# Altium footprint library STM32.PcbLib: 15 footprints
Each footprint in its own frame and in the unit in brackets; x right, y up, seen from the top. Pads: shape width x height; smd on the part's side, far side on the other; paste and mask are expansions set on the pad; w line width, h text height; cw(c..) or ccw(c..) is an arc to the next point about the centre after c.
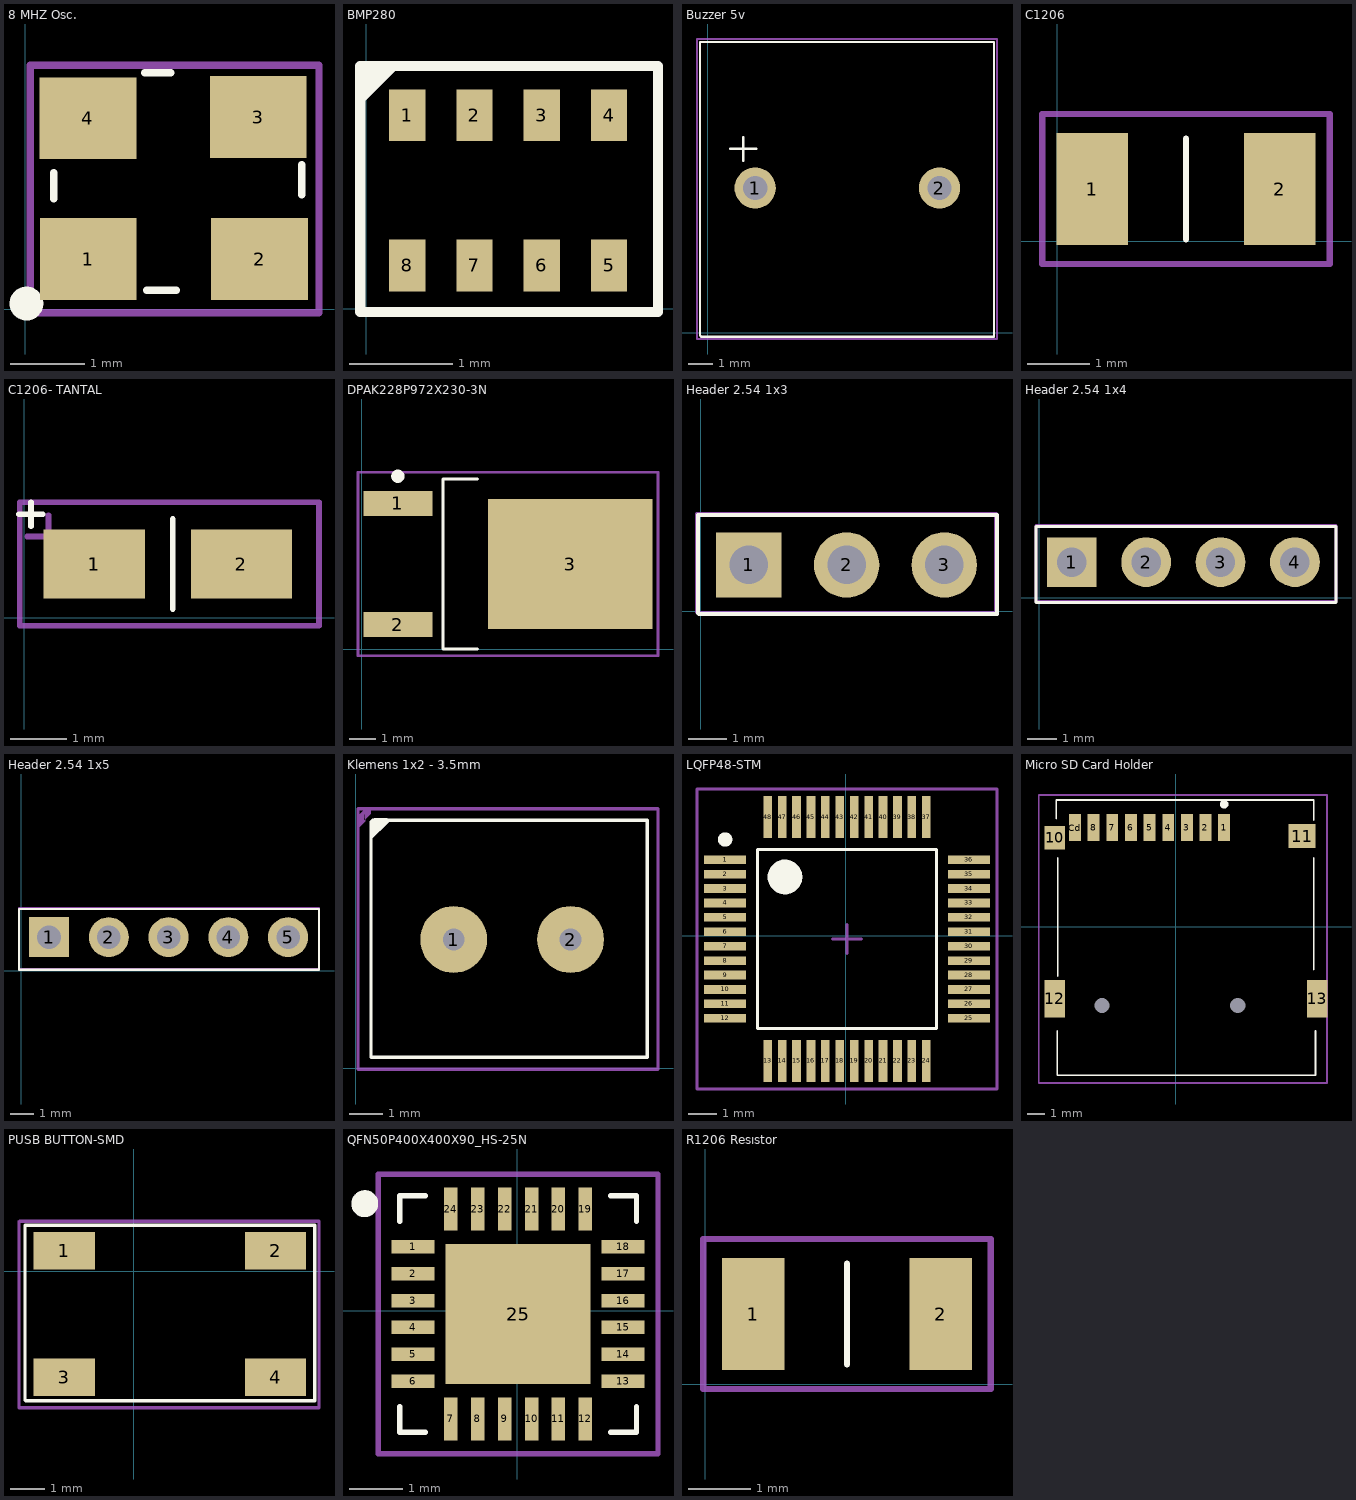
[diagram p0: the footprints below, top view; thin cyan lines are the x and y axes]

## 8 MHZ Osc. [mm]
pads (4):
  rect 1.3x1.1 smd mask+0.05: 1(0.846,0.674) 2(3.146,0.674) 3(3.13,2.581) 4(0.841,2.565)
Top Overlay:
  circle w0.254: c0.015,0.075 r0.1
  lines w0.1: 0.382,1.482 0.382,1.836 ; 1.603,3.174 1.957,3.174 ; 1.628,0.253 2.028,0.253 ; 3.711,1.54 3.711,1.94
Mechanical 3:
  circle w0.254: c0.611,0.64 r0.1
  lines w0.1: 0.066,-0.047 0.066,3.277 3.945,3.277 3.945,-0.047 0.066,-0.047
3D body "ASE3.STEP": height 1.22, standoff -0.03, extent 0.448,0.523 3.648,3.023

## BMP280 [mm]
pads (8):
  rect 0.35x0.5 smd mask+0.05: 1(0.398,1.867) 2(1.048,1.867) 3(1.698,1.867) 4(2.348,1.867) 5(2.348,0.417) 6(1.698,0.417) 7(1.048,0.417) 8(0.398,0.417)
Top Overlay:
  region: 0.328,2.343 -0.078,1.937 -0.078,2.322 -0.056,2.343
  lines w0.1: -0.056,-0.033 -0.056,2.343 2.821,2.343 2.821,-0.033 -0.056,-0.033
3D body "User Library-BMP280.step": height 0.95, standoff -0.01, extent 0.13,0.142 2.63,2.142

## Buzzer 5v [mm]
pads (2):
  round 1.7 hole 1 mask+0.05: 1(1.962,5.966) 2(9.562,5.966)
Top Overlay:
  lines w0.1: 0.937,7.591 2.012,7.591 ; 1.462,7.091 1.462,8.066 ; -0.313,-0.109 -0.263,-0.159 11.812,-0.159 11.812,11.991 -0.313,11.991 -0.313,-0.109
Mechanical 3:
  lines w0.1: -0.438,-0.259 11.937,-0.259 11.937,12.116 -0.438,12.116 -0.438,-0.259
3D body "cem-1205c.stp": height 9.5, standoff -4.5, extent -0.238,-0.084 11.762,11.916

## C1206 [mm]
pads (2):
  rect 1.15x1.8 smd mask+0.05: 1(0.556,0.84) 2(3.556,0.84)
Top Overlay:
  lines w0.1: 2.056,0.035 2.056,1.645
Mechanical 3:
  lines w0.1: -0.244,-0.36 -0.244,2.04 4.356,2.04 4.356,-0.36 -0.244,-0.36
3D body "1206CAP.step": height 1, standoff 0, extent 0.456,0.04 3.656,1.64

## C1206- TANTAL [mm]
pads (3):
  rect 1.8x1.23 smd mask+0.05: 1(1.243,0.957) 1(1.243,0.957) 2(3.863,0.957)
Top Overlay:
  lines w0.1: -0.095,1.845 0.33,1.845 ; 0.118,1.632 0.118,2.057 ; 2.643,0.157 2.643,1.757
Mechanical 3:
  lines w0.1: 0.049,1.446 0.811,1.446 ; 0.43,1.065 0.43,1.827 ; -0.082,-0.143 -0.082,2.057 5.243,2.057 5.243,-0.143 -0.082,-0.143
3D body "User Library-CaseA_3216-18.step": height 1.62, standoff 0.02, extent 0.943,0.157 4.143,1.757

## DPAK228P972X230-3N [mm]
pads (3):
  rect 2.6x0.95 smd mask+0.05: 1(1.364,5.497) 2(1.364,0.937)
  rect 6.2x4.9 smd mask+0.05: 3(7.864,3.217)
Top Overlay:
  circle w0.25: c1.364,6.522 r0.125
  lines w0.1: 4.364,0.017 3.064,0.017 3.064,6.417 4.364,6.417
Mechanical 3:
  lines w0.1: 5.014,3.217 6.014,3.217 ; 5.514,2.717 5.514,3.717 ; -0.136,-0.233 -0.136,6.667 11.164,6.667 11.164,-0.233 -0.136,-0.233
3D body: height 2.3, standoff 1, extent 3.014,0.017 9.614,6.417

## Header 2.54 1x3 [mm]
pads (3):
  rect 1.7x1.7 hole 1 mask+0.05: 1(1.254,1.201)
  round 1.7 hole 1 mask+0.05: 2(3.794,1.201) 3(6.334,1.201)
Top Overlay:
  lines w0.1: -0.071,-0.049 -0.071,2.501 7.704,2.501 7.704,-0.074 -0.046,-0.074 -0.071,-0.049
Mechanical 3:
  lines w0.1: -0.096,-0.024 -0.071,-0.049 7.679,-0.049 7.679,2.526 -0.096,2.526 -0.096,-0.024
3D body "User Library-ZL262-3SG.step": height 9.1, standoff -2.45, extent -0.006,-0.049 7.614,2.451

## Header 2.54 1x4 [mm]
pads (4):
  rect 1.7x1.7 hole 1 mask+0.05: 1(1.108,1.218)
  round 1.7 hole 1 mask+0.05: 2(3.648,1.218) 3(6.188,1.218) 4(8.728,1.218)
Top Overlay:
  lines w0.1: -0.117,-0.157 10.133,-0.157 10.133,2.443 -0.117,2.443 -0.117,-0.157
Mechanical 3:
  lines w0.1: -0.117,-0.132 -0.117,2.468 10.133,2.468 10.133,-0.132 -0.117,-0.132
3D body "User Library-ZL262-4SG.step": height 9.1, standoff -2.45, extent -0.072,-0.107 10.088,2.393

## Header 2.54 1x5 [mm]
pads (5):
  rect 1.7x1.7 hole 1 mask+0.05: 1(1.186,1.426)
  round 1.7 hole 1 mask+0.05: 2(3.726,1.426) 3(6.266,1.426) 4(8.806,1.426) 5(11.346,1.426)
Top Overlay:
  lines w0.1: -0.089,0.051 -0.089,2.626 12.661,2.626 12.661,0.051 -0.089,0.051
Mechanical 3:
  lines w0.1: -0.089,0.076 -0.089,2.651 12.661,2.651 12.661,0.076 -0.089,0.076
3D body "User Library-ZL262-5SG (1).step": height 9.1, standoff -2.45, extent -0.064,0.126 12.636,2.626

## Klemens 1x2 - 3.5mm [mm]
pads (2):
  round 2 hole 0.65: 1(2.927,3.852) 2(6.427,3.852)
Top Overlay:
  region: 0.994,7.384 0.421,6.811 0.421,7.346 0.554,7.479 0.934,7.479
  lines w0.1: 0.452,7.377 0.452,0.327 8.727,0.327 8.727,7.427 0.502,7.427
Mechanical 3:
  region: 0.279,7.762 0.063,7.546 0.063,7.763 0.065,7.762 0.279,7.762 0.279,7.398 0.065,7.184 0.065,7.762 0.279,7.762 0.286,7.755 0.445,7.755 0.445,7.611 0.242,7.409
  lines w0.1: 0.065,-0.02 0.074,-0.029 9.044,-0.029 9.044,7.762 0.279,7.762 0.065,7.762 0.065,-0.02
3D body "terminal_blocks_a-tb350-te02.stp": height 8.9, standoff -3.29, extent 0.627,0.452 8.621,7.452

## LQFP48-STM [mm]
pads (48):
  rect 1.45x0.3 smd mask+0.05: 1(-4.18,2.63) 2(-4.18,2.13) 3(-4.18,1.63) 4(-4.18,1.13) 5(-4.18,0.63) 6(-4.18,0.13) 7(-4.18,-0.37) 8(-4.18,-0.87) 9(-4.18,-1.37) 10(-4.18,-1.87) 11(-4.18,-2.37) 12(-4.18,-2.87) 25(4.27,-2.87) 26(4.27,-2.37) 27(4.27,-1.87) 28(4.27,-1.37) 29(4.27,-0.87) 30(4.27,-0.37) 31(4.27,0.13) 32(4.27,0.63) 33(4.27,1.13) 34(4.27,1.63) 35(4.27,2.13) 36(4.27,2.63)
  rect 0.3x1.45 smd mask+0.05: 13(-2.705,-4.345) 14(-2.205,-4.345) 15(-1.705,-4.345) 16(-1.205,-4.345) 17(-0.705,-4.345) 18(-0.205,-4.345) 19(0.295,-4.345) 20(0.795,-4.345) 21(1.295,-4.345) 22(1.795,-4.345) 23(2.295,-4.345) 24(2.795,-4.345) 37(2.795,4.105) 38(2.295,4.105) 39(1.795,4.105) 40(1.295,4.105) 41(0.795,4.105) 42(0.295,4.105) 43(-0.205,4.105) 44(-0.705,4.105) 45(-1.205,4.105) 46(-1.705,4.105) 47(-2.205,4.105) 48(-2.705,4.105)
Top Overlay:
  circle w0.6: c-2.105,2.03 r0.3
  circle w0.25: c-4.18,3.33 r0.125
  lines w0.1: -3.055,-3.22 3.145,-3.22 3.145,2.98 -3.055,2.98 -3.055,-3.22
Mechanical 3:
  lines w0.1: -0.455,-0.12 0.545,-0.12 ; 0.045,-0.62 0.045,0.38 ; -5.155,-5.32 5.245,-5.32 5.245,5.08 -5.155,5.08 -5.155,-5.32
3D body "LQFP48-STM.step": height 1.6, standoff 0, extent -4.455,-4.62 4.545,4.38

## Micro SD Card Holder [mm]
pads (15):
  rect 0.7x1.6 smd paste+0 mask+0: 1(2.849,5.866) 2(1.749,5.866) 3(0.649,5.866) 4(-0.451,5.866) 5(-1.551,5.866) 6(-2.651,5.866) 7(-3.751,5.866) 8(-4.851,5.866) Cd(-5.951,5.866)
  rect 1.2x1.4 smd paste+0 mask+0: 10(-7.151,5.266)
  rect 1.6x1.4 smd paste+0 mask+0: 11(7.449,5.366)
  rect 1.2x2.2 smd paste+0 mask+0: 12(-7.151,-4.234) 13(8.349,-4.234)
  round 0 hole 0.9 unplated paste-1000 mask+0: ""(-4.351,-4.634) ""(3.649,-4.634)
Top Overlay:
  circle w0.25: c2.849,7.241 r0.125
  lines w0.1: -7.06,6.391 -7.06,7.491 8.14,7.491 8.14,6.291 ; -6.992,-6.134 -6.992,-8.757 8.24,-8.757 8.24,-6.134 ; -6.96,-2.909 -6.96,4.091 ; 8.14,-2.509 8.14,4.091
Mechanical 3:
  lines w0.1: -8.085,-9.209 8.915,-9.209 8.915,7.791 8.665,7.791 -7.585,7.791 -8.085,7.791 -8.085,-9.209
3D body "User Library-MEM2055-00-190-01-A_revG.step": height 1.85, standoff -0.6, extent -7.402,-8.629 8.598,6.621

## PUSB BUTTON-SMD [mm]
pads (4):
  rect 1.8x1.1 smd mask+0.05: 1(-2.048,0.593) 2(4.152,0.593) 3(-2.048,-3.107) 4(4.152,-3.107)
Top Overlay:
  lines w0.1: -3.198,-3.782 -3.198,1.343 5.302,1.343 5.302,-3.807 -3.173,-3.807
Mechanical 3:
  lines w0.1: -3.373,-4.007 -3.373,1.443 -3.348,1.468 5.427,1.468 5.427,-4.007 -3.373,-4.007
3D body "User Library-4x4_SMD_Switch.step": height 1.5, standoff 0, extent -2.248,-3.907 4.152,1.293

## QFN50P400X400X90_HS-25N [mm]
pads (25):
  rect 0.8x0.25 smd mask+0.05: 1(-1.933,1.194) 2(-1.933,0.694) 3(-1.933,0.194) 4(-1.933,-0.306) 5(-1.933,-0.806) 6(-1.933,-1.306) 13(1.967,-1.306) 14(1.967,-0.806) 15(1.967,-0.306) 16(1.967,0.194) 17(1.967,0.694) 18(1.967,1.194)
  rect 0.25x0.8 smd mask+0.05: 7(-1.233,-2.006) 8(-0.733,-2.006) 9(-0.233,-2.006) 10(0.267,-2.006) 11(0.767,-2.006) 12(1.267,-2.006) 19(1.267,1.894) 20(0.767,1.894) 21(0.267,1.894) 22(-0.233,1.894) 23(-0.733,1.894) 24(-1.233,1.894)
  rect 2.7x2.6 smd mask+0.05: 25(0.017,-0.056)
Top Overlay:
  circle w0.25: c-2.833,1.994 r0.125
  lines w0.1: -2.183,-1.781 -2.183,-2.256 -1.708,-2.256 ; -2.183,1.669 -2.183,2.144 -1.708,2.144 ; 1.742,-2.256 2.217,-2.256 2.217,-1.781 ; 1.742,2.144 2.217,2.144 2.217,1.669
Mechanical 3:
  lines w0.1: -0.483,-0.056 0.517,-0.056 ; 0.017,-0.556 0.017,0.444 ; -2.583,-2.656 -2.583,2.544 2.617,2.544 2.617,-2.656 -2.583,-2.656
3D body "QFN50P400X400X90_HS-25N.step": height 0.9, standoff 0, extent -2.053,-2.126 2.087,2.014

## R1206 Resıstor [mm]
pads (2):
  rect 1x1.8 smd mask+0.05: 1(0.764,1.128) 2(3.764,1.128)
Top Overlay:
  lines w0.1: 2.264,0.323 2.264,1.933
Mechanical 3:
  lines w0.1: -0.036,-0.072 -0.036,2.328 4.564,2.328 4.564,-0.072 -0.036,-0.072
3D body "1206RES.step": height 0.55, standoff 0, extent 0.664,0.323 3.864,1.933